# Altium footprint library KC_Amp.PCBLIB: 31 footprints (part 2 of 2)
Each footprint in its own frame and in the unit in brackets; x right, y up, seen from the top. Pads: shape width x height; smd on the part's side, far side on the other; paste and mask are expansions set on the pad; w line width, h text height; cw(c..) or ccw(c..) is an arc to the next point about the centre after c.
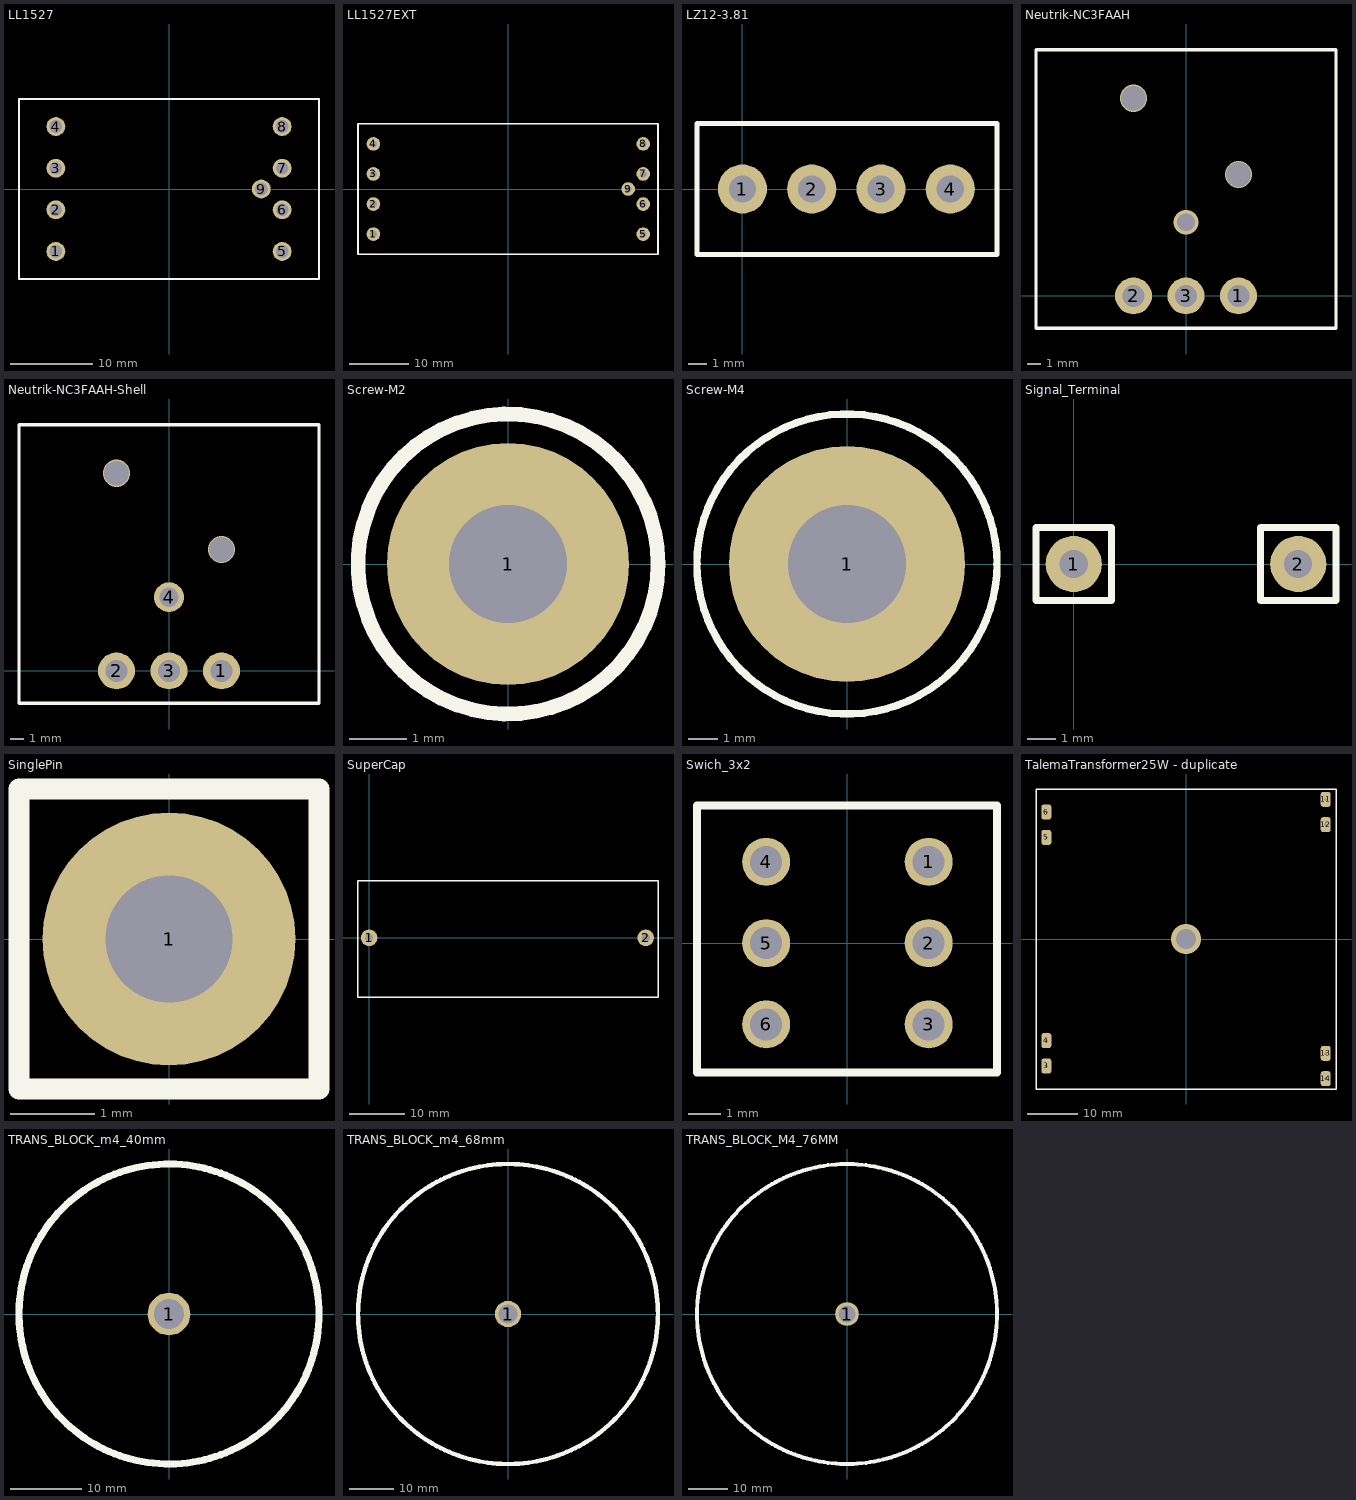
[diagram p1: the footprints below, top view; thin cyan lines are the x and y axes]

## LL1527 [mm] "Lundahl LL1527"
height 14
pads (9):
  round 2.3 hole 1.55: 1(-13.8,-7.62) 2(-13.8,-2.54) 3(-13.8,2.54) 4(-13.8,7.62) 5(13.8,-7.62) 6(13.8,-2.54) 7(13.8,2.54) 8(13.8,7.62) 9(11.26,0)
Top Overlay:
  lines w0.254: -18.3,-11 -18.3,11 18.3,11 18.3,-11 -18.3,-11

## LL1527EXT [mm] "Lundahl LL1527 pin extend"
height 14
pads (9):
  round 2.3 hole 1.15: 1(-22.8,-7.62) 2(-22.8,-2.54) 3(-22.8,2.54) 4(-22.8,7.62) 5(22.8,-7.62) 6(22.8,-2.54) 7(22.8,2.54) 8(22.8,7.62) 9(20.26,0)
Top Overlay:
  lines w0.254: -25.4,-11 25.298,-11 25.298,11 -25.4,11 -25.4,-11

## LZ12-3.81 [mm] "Double Pole Switch 6 Pin"
height 14
pads (4):
  round 2.7 hole 1.5: 1(0,0) 2(3.81,0) 3(7.62,0) 4(11.43,0)
Top Overlay:
  lines w0.254: -2.5,-3.6 -2.5,3.6 14,3.6 14,-3.6 -2.5,-3.6

## Neutrik-NC3FAAH [mm] "3pin XLR"
height 14
pads (3):
  round 2.7 hole 1.6: 1(3.85,0) 2(-3.85,0) 3(0,0)
via 3.85,8.9 diameter 2 hole 1.8
via 0,5.4 diameter 1.8 hole 1.3
via -3.85,14.5 diameter 2 hole 1.8
Top Overlay:
  lines w0.254: -11,-2.362 -11,18.034 11,18.034 11,-2.362 -11,-2.362

## Neutrik-NC3FAAH-Shell [mm] "3pin XLR with shell pin"
height 14
pads (4):
  round 2.7 hole 1.6: 1(3.85,0) 2(-3.85,0) 3(0,0)
  round 2.2 hole 1.4: 4(0,5.4)
via -3.85,14.5 diameter 2 hole 1.8
via 3.85,8.9 diameter 2 hole 1.8
Top Overlay:
  lines w0.254: -11,-2.362 -11,18.034 11,18.034 11,-2.362 -11,-2.362

## Screw-M2 [mm]
pads (1):
  round 4.2 hole 2.05: 1(0,0)
Top Overlay:
  circle w0.254: c0,0 r2.6

## Screw-M4 [mm]
pads (1):
  round 8 hole 4: 1(0,0)
Top Overlay:
  circle w0.254: c0,0 r5.08

## Signal_Terminal [mm] "Signal Path Pin"
pads (2):
  round 2 hole 1: 1(0,0) 2(8,0)
Top Overlay:
  lines w0.254: -1.346,-1.295 1.346,-1.295 1.346,1.295 -1.346,1.295 -1.346,-1.295 ; 6.655,-1.295 6.655,1.295 9.347,1.295 9.347,-1.295 6.655,-1.295

## SinglePin [mm] "Single Pin For Power Wire or GND"
pads (1):
  round 3 hole 1.5: 1(0,0)
Top Overlay:
  lines w0.254: -1.778,-1.778 1.778,-1.778 1.778,1.778 -1.778,1.778 -1.778,-1.778

## SuperCap [mm] "大型耦合电容 脚距50mm 宽30mm"
height 30
pads (2):
  round 3 hole 1.5: 1(0,0) 2(50,0)
Top Overlay:
  lines w0.254: -2.007,-10.693 52.222,-10.693 52.222,10.287 -2.007,10.287 -2.007,-10.693

## Swich_3x2 [mm] "Double Pole Switch 6 Pin"
height 14
pads (6):
  round 1.5 hole 1: 1(2.54,2.54) 2(2.54,0) 3(2.54,-2.54) 4(-2.54,2.54) 5(-2.54,0) 6(-2.54,-2.54)
Top Overlay:
  lines w0.254: -4.699,-4.039 4.674,-4.039 4.674,4.293 -4.699,4.293 -4.699,-4.039

## TalemaTransformer25W - duplicate [mm] "Talema 25w Transformer on PCB"
height 37.5
pads (8):
  rrect50% 2x3 hole 0.6 square: 3(-27.94,-25.4) 4(-27.94,-20.32) 5(-27.94,20.32) 6(-27.94,25.4) 11(27.94,27.94) 12(27.94,22.86) 13(27.94,-22.86) 14(27.94,-27.94)
via 0,0 diameter 6 hole 4
Top Overlay:
  lines w0.254: -30,-30 -30,30 30,30 30,-30 -30,-30

## TRANS_BLOCK_m4_40mm [mm] "Transformer 4.0mm screw  40mm circle"
pads (1):
  round 6 hole 4.2: 1(0,0)
Top Overlay:
  circle w1: c0,0 r21

## TRANS_BLOCK_m4_68mm [mm] "Transformer 4.0mm screw  68mm Diameter"
pads (1):
  round 6 hole 4.2: 1(0,0)
Top Overlay:
  circle w1: c0,0 r34

## TRANS_BLOCK_M4_76MM [mm] "Transformer M4 Mount Screw 76mm Diameter"
pads (1):
  round 6 hole 4.2: 1(0,0)
Top Overlay:
  circle w1: c0,0 r38